# Altium integrated library Altium_WS-TATU (rev19a) (1).IntLib: 12 symbols
Pins are listed as number, name and electrical type; pins without a type are passive.

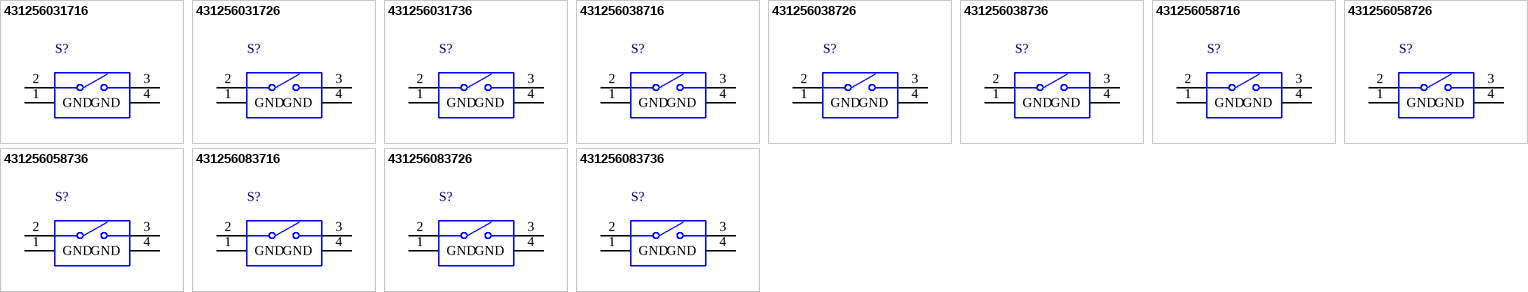
[diagram p0: symbols 431256031716 to 431256083736]

## 431256031716
designator S?
WS-TATU THT Tact Switch 6x6mm Right Angled Type with ground terminal, height 3.15mm, 160gf; Part Number: 431256031716; Rated Voltage: 12VDC; Rated Current: 50mA; Washable: No; ComponentLink1Description: Manufacturer; ComponentLink1URL: http://www.we-online.de; ComponentLink2Description: Datasheet; ComponentLink2URL: https://katalog.we-online.com/em/datasheet/431256031716.pdf; Operating Temperature: -40 to +85degC; Published Date: September 2019; Contact Material: Stainless Steel; Height: 3.15mm; Mounting Technology: THT; Contact Plating: Silver; Operation Force: 160gf; Packaging: Bulk; Terminal Material: Copper Alloy; Publisher: Wurth Elektronik; Terminal Plating: Silver
footprint 4312560317x6
pins: 1 GND, 2, 3, 4 GND

## 431256031726
designator S?
WS-TATU THT Tact Switch 6x6mm Right Angled Type with ground terminal, height 3.15mm, 260gf; Part Number: 431256031726; Rated Voltage: 12VDC; Rated Current: 50mA; Washable: No; ComponentLink1Description: Manufacturer; ComponentLink1URL: http://www.we-online.de; ComponentLink2Description: Datasheet; ComponentLink2URL: https://katalog.we-online.com/em/datasheet/431256031726.pdf; Operating Temperature: -40 to +85degC; Published Date: September 2019; Contact Material: Stainless Steel; Height: 3.15mm; Mounting Technology: THT; Contact Plating: Silver; Operation Force: 260gf; Packaging: Bulk; Terminal Material: Copper Alloy; Publisher: Wurth Elektronik; Terminal Plating: Silver
footprint 4312560317x6
pins: 1 GND, 2, 3, 4 GND

## 431256031736
designator S?
WS-TATU THT Tact Switch 6x6mm Right Angled Type with ground terminal, height 3.15mm, 360gf; Part Number: 431256031736; Rated Voltage: 12VDC; Rated Current: 50mA; Washable: No; ComponentLink1Description: Manufacturer; ComponentLink1URL: http://www.we-online.de; ComponentLink2Description: Datasheet; ComponentLink2URL: https://katalog.we-online.com/em/datasheet/431256031736.pdf; Operating Temperature: -40 to +85degC; Published Date: September 2019; Contact Material: Stainless Steel; Height: 3.15mm; Mounting Technology: THT; Contact Plating: Silver; Operation Force: 360gf; Packaging: Bulk; Terminal Material: Copper Alloy; Publisher: Wurth Elektronik; Terminal Plating: Silver
footprint 4312560317x6
pins: 1 GND, 2, 3, 4 GND

## 431256038716
designator S?
WS-TATU THT Tact Switch 6x6mm Right Angled Type with ground terminal, height 3.85mm, 160gf; Part Number: 431256038716; Rated Voltage: 12VDC; Rated Current: 50mA; Washable: No; ComponentLink1Description: Manufacturer; ComponentLink1URL: http://www.we-online.de; ComponentLink2Description: Datasheet; ComponentLink2URL: https://katalog.we-online.com/em/datasheet/431256038716.pdf; Operating Temperature: -40 to +85degC; Published Date: September 2019; Contact Material: Stainless Steel; Height: 3.85mm; Mounting Technology: THT; Contact Plating: Silver; Operation Force: 160gf; Packaging: Bulk; Terminal Material: Copper Alloy; Publisher: Wurth Elektronik; Terminal Plating: Silver
footprint 4312560387x6
pins: 1 GND, 2, 3, 4 GND

## 431256038726
designator S?
WS-TATU THT Tact Switch 6x6mm Right Angled Type with ground terminal, height 3.85mm, 260gf; Part Number: 431256038726; Rated Voltage: 12VDC; Rated Current: 50mA; Washable: No; ComponentLink1Description: Manufacturer; ComponentLink1URL: http://www.we-online.de; ComponentLink2Description: Datasheet; ComponentLink2URL: https://katalog.we-online.com/em/datasheet/431256038726.pdf; Operating Temperature: -40 to +85degC; Published Date: September 2019; Contact Material: Stainless Steel; Height: 3.85mm; Mounting Technology: THT; Contact Plating: Silver; Operation Force: 260gf; Packaging: Bulk; Terminal Material: Copper Alloy; Publisher: Wurth Elektronik; Terminal Plating: Silver
footprint 4312560387x6
pins: 1 GND, 2, 3, 4 GND

## 431256038736
designator S?
WS-TATU THT Tact Switch 6x6mm Right Angled Type with ground terminal, height 3.85mm, 360gf; Part Number: 431256038736; Rated Voltage: 12VDC; Rated Current: 50mA; Washable: No; ComponentLink1Description: Manufacturer; ComponentLink1URL: http://www.we-online.de; ComponentLink2Description: Datasheet; ComponentLink2URL: https://katalog.we-online.com/em/datasheet/431256038736.pdf; Operating Temperature: -40 to +85degC; Published Date: September 2019; Contact Material: Stainless Steel; Height: 3.85mm; Mounting Technology: THT; Contact Plating: Silver; Operation Force: 360gf; Packaging: Bulk; Terminal Material: Copper Alloy; Publisher: Wurth Elektronik; Terminal Plating: Silver
footprint 4312560387x6
pins: 1 GND, 2, 3, 4 GND

## 431256058716
designator S?
WS-TATU THT Tact Switch 6x6mm Right Angled Type with ground terminal, height 5.85mm, 160gf; Part Number: 431256058716; Rated Voltage: 12VDC; Rated Current: 50mA; Washable: No; ComponentLink1Description: Manufacturer; ComponentLink1URL: http://www.we-online.de; ComponentLink2Description: Datasheet; ComponentLink2URL: https://katalog.we-online.com/em/datasheet/431256058716.pdf; Operating Temperature: -40 to +85degC; Published Date: September 2019; Contact Material: Stainless Steel; Height: 5.85mm; Mounting Technology: THT; Contact Plating: Silver; Operation Force: 160gf; Packaging: Bulk; Terminal Material: Copper Alloy; Publisher: Wurth Elektronik; Terminal Plating: Silver
footprint 4312560587x6
pins: 1 GND, 2, 3, 4 GND

## 431256058726
designator S?
WS-TATU THT Tact Switch 6x6mm Right Angled Type with ground terminal, height 5.85mm, 260gf; Part Number: 431256058726; Rated Voltage: 12VDC; Rated Current: 50mA; Washable: No; ComponentLink1Description: Manufacturer; ComponentLink1URL: http://www.we-online.de; ComponentLink2Description: Datasheet; ComponentLink2URL: https://katalog.we-online.com/em/datasheet/431256058726.pdf; Operating Temperature: -40 to +85degC; Published Date: September 2019; Contact Material: Stainless Steel; Height: 5.85mm; Mounting Technology: THT; Contact Plating: Silver; Operation Force: 260gf; Packaging: Bulk; Terminal Material: Copper Alloy; Publisher: Wurth Elektronik; Terminal Plating: Silver
footprint 4312560587x6
pins: 1 GND, 2, 3, 4 GND

## 431256058736
designator S?
WS-TATU THT Tact Switch 6x6mm Right Angled Type with ground terminal, height 5.85mm, 360gf; Part Number: 431256058736; Rated Voltage: 12VDC; Rated Current: 50mA; Washable: No; ComponentLink1Description: Manufacturer; ComponentLink1URL: http://www.we-online.de; ComponentLink2Description: Datasheet; ComponentLink2URL: https://katalog.we-online.com/em/datasheet/431256058736.pdf; Operating Temperature: -40 to +85degC; Published Date: September 2019; Contact Material: Stainless Steel; Height: 5.85mm; Mounting Technology: THT; Contact Plating: Silver; Operation Force: 360gf; Packaging: Bulk; Terminal Material: Copper Alloy; Publisher: Wurth Elektronik; Terminal Plating: Silver
footprint 4312560587x6
pins: 1 GND, 2, 3, 4 GND

## 431256083716
designator S?
WS-TATU THT Tact Switch 6x6mm Right Angled Type with ground terminal, height 8.35mm, 160gf; Part Number: 431256083716; Rated Voltage: 12VDC; Rated Current: 50mA; Washable: No; ComponentLink1Description: Manufacturer; ComponentLink1URL: http://www.we-online.de; ComponentLink2Description: Datasheet; ComponentLink2URL: https://katalog.we-online.com/em/datasheet/431256083716.pdf; Operating Temperature: -40 to +85degC; Published Date: September 2019; Contact Material: Stainless Steel; Height: 8.35mm; Mounting Technology: THT; Contact Plating: Silver; Operation Force: 160gf; Packaging: Bulk; Terminal Material: Copper Alloy; Publisher: Wurth Elektronik; Terminal Plating: Silver
footprint 4312560837x6
pins: 1 GND, 2, 3, 4 GND

## 431256083726
designator S?
WS-TATU THT Tact Switch 6x6mm Right Angled Type with ground terminal, height 8.35mm, 260gf; Part Number: 431256083726; Rated Voltage: 12VDC; Rated Current: 50mA; Washable: No; ComponentLink1Description: Manufacturer; ComponentLink1URL: http://www.we-online.de; ComponentLink2Description: Datasheet; ComponentLink2URL: https://katalog.we-online.com/em/datasheet/431256083726.pdf; Operating Temperature: -40 to +85degC; Published Date: September 2019; Contact Material: Stainless Steel; Height: 8.35mm; Mounting Technology: THT; Contact Plating: Silver; Operation Force: 260gf; Packaging: Bulk; Terminal Material: Copper Alloy; Publisher: Wurth Elektronik; Terminal Plating: Silver
footprint 4312560837x6
pins: 1 GND, 2, 3, 4 GND

## 431256083736
designator S?
WS-TATU THT Tact Switch 6x6mm Right Angled Type with ground terminal, height 8.35mm, 360gf; Part Number: 431256083736; Rated Voltage: 12VDC; Rated Current: 50mA; Washable: No; ComponentLink1Description: Manufacturer; ComponentLink1URL: http://www.we-online.de; ComponentLink2Description: Datasheet; ComponentLink2URL: https://katalog.we-online.com/em/datasheet/431256083736.pdf; Operating Temperature: -40 to +85degC; Published Date: September 2019; Contact Material: Stainless Steel; Height: 8.35mm; Mounting Technology: THT; Contact Plating: Silver; Operation Force: 360gf; Packaging: Bulk; Terminal Material: Copper Alloy; Publisher: Wurth Elektronik; Terminal Plating: Silver
footprint 4312560837x6
pins: 1 GND, 2, 3, 4 GND